# Altium footprint library single channel esc.PcbLib: 8 footprints
Each footprint in its own frame and in the unit in brackets; x right, y up, seen from the top. Pads: shape width x height; smd on the part's side, far side on the other; paste and mask are expansions set on the pad; w line width, h text height; cw(c..) or ccw(c..) is an arc to the next point about the centre after c.
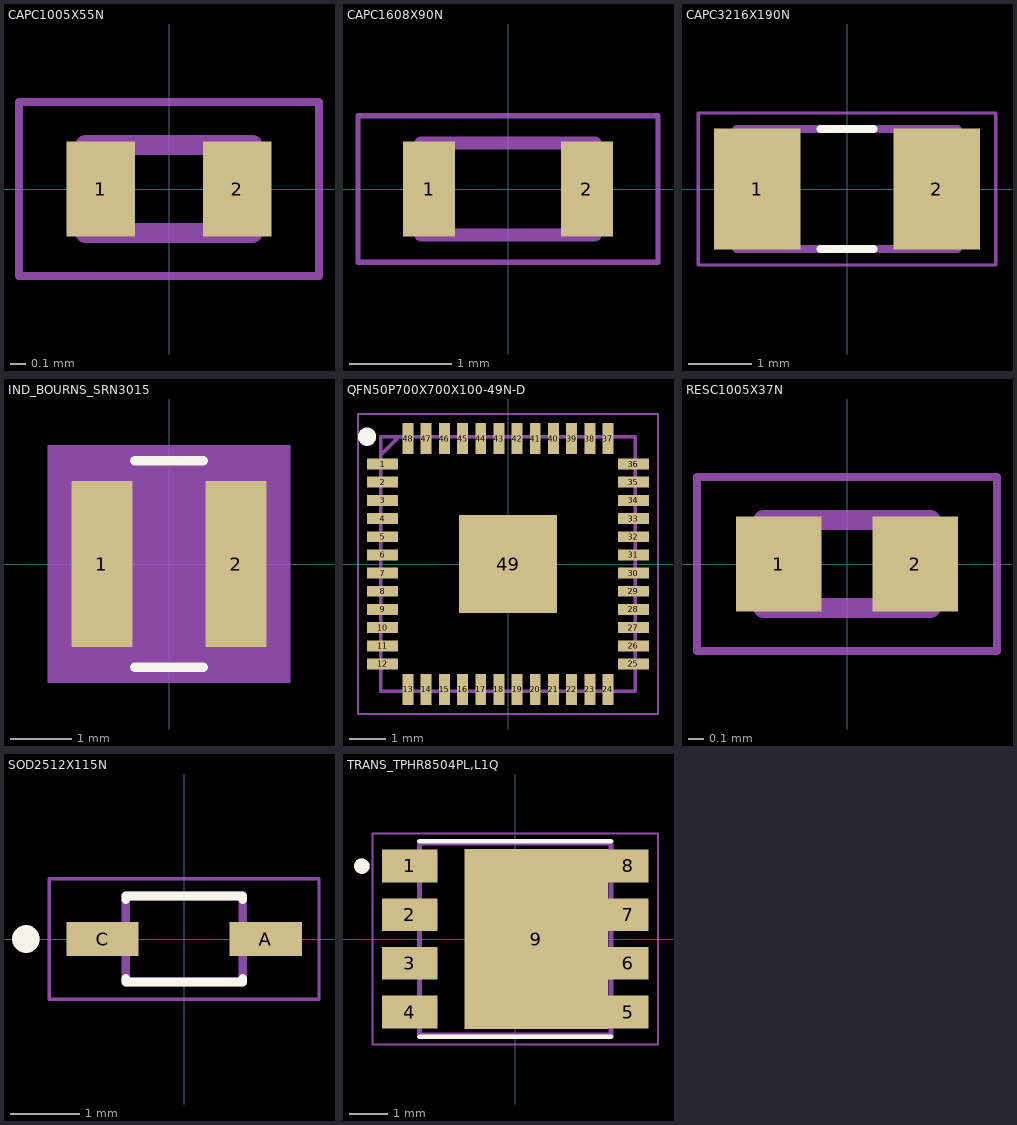
[diagram p0: the footprints below, top view; thin cyan lines are the x and y axes]

## CAPC1005X55N [mm]
pads (2):
  rect 0.432x0.6 smd: 1(-0.432,0) 2(0.432,0)
Mechanical 13:
  lines w0.127: -0.53,-0.28 -0.53,0.28 0.53,0.28 0.53,-0.28 -0.53,-0.28
Mechanical 15:
  lines w0.05: -0.95,-0.55 -0.95,0.55 0.95,0.55 0.95,-0.55 -0.95,-0.55
3D body "GRM1555C1H222JA01D.STEP": height 0.5, standoff 0, extent -0.5,-0.267 0.5,0.283

## CAPC1608X90N [mm]
pads (2):
  rect 0.508x0.93 smd: 1(-0.77,0) 2(0.77,0)
Mechanical 13:
  lines w0.127: -0.85,-0.45 0.85,-0.45 0.85,0.45 -0.85,0.45 -0.85,-0.45
Mechanical 15:
  lines w0.05: -1.465,-0.715 1.465,-0.715 1.465,0.715 -1.465,0.715 -1.465,-0.715
3D body "GRM188R71E224JA88D.STEP": height 0.81, standoff 0.01, extent -0.8,-0.445 0.8,0.456

## CAPC3216X190N [mm]
pads (2):
  rect 1.37x1.91 smd: 1(-1.421,0) 2(1.421,0)
Top Overlay:
  lines w0.127: -0.42,-0.95 0.42,-0.95 ; -0.42,0.95 0.42,0.95
Mechanical 13:
  lines w0.127: -1.75,-0.95 -1.75,0.95 1.75,0.95 1.75,-0.95 -1.75,-0.95
Mechanical 15:
  lines w0.05: -2.355,-1.205 -2.355,1.205 2.355,1.205 2.355,-1.205 -2.355,-1.205
3D body "GRM31CC80G227ME11K.STEP": height 1.56, standoff -0.04, extent -1.6,-0.95 1.6,0.95

## IND_BOURNS_SRN3015 [mil]
pads (2):
  rect 39x106 smd paste+0 mask+0: 1(-43,0) 2(43,0)
Top Overlay:
  lines w6: -21.88,-66 21.88,-66 ; -21.88,66 21.88,66
Mechanical 5:
  region: 77.5,-76 -77.5,-76 -77.5,76 77.5,76
Mechanical 13:
  lines w1: -61,-61 -61,61 61,61 61,-61 -61,-61
Mechanical 15:
  region: -71,-63 -72.5,-63 -72.5,63 -71,63 -71,71 71,71 71,63 72.5,63 72.5,-63 71,-63 71,-71 -71,-71
  lines w6: -72.5,-63 -71,-63 -71,-71 71,-71 71,-63 72.5,-63 72.5,63 71,63 71,71 -71,71 -71,63 -72.5,63 -72.5,-63
3D body "IND_BOURNS_SRN3015.step": height 59.02, standoff 0, extent -60.98,-61.1 60.98,61.1

## QFN50P700X700X100-49N-D [mm]
pads (49):
  rect 0.85x0.3 smd: 1(-3.45,2.75) 2(-3.45,2.25) 3(-3.45,1.75) 4(-3.45,1.25) 5(-3.45,0.75) 6(-3.45,0.25) 7(-3.45,-0.25) 8(-3.45,-0.75) 9(-3.45,-1.25) 10(-3.45,-1.75) 11(-3.45,-2.25) 12(-3.45,-2.75) 25(3.45,-2.75) 26(3.45,-2.25) 27(3.45,-1.75) 28(3.45,-1.25) 29(3.45,-0.75) 30(3.45,-0.25) 31(3.45,0.25) 32(3.45,0.75) 33(3.45,1.25) 34(3.45,1.75) 35(3.45,2.25) 36(3.45,2.75)
  rect 0.3x0.85 smd: 13(-2.75,-3.45) 14(-2.25,-3.45) 15(-1.75,-3.45) 16(-1.25,-3.45) 17(-0.75,-3.45) 18(-0.25,-3.45) 19(0.25,-3.45) 20(0.75,-3.45) 21(1.25,-3.45) 22(1.75,-3.45) 23(2.25,-3.45) 24(2.75,-3.45) 37(2.75,3.45) 38(2.25,3.45) 39(1.75,3.45) 40(1.25,3.45) 41(0.75,3.45) 42(0.25,3.45) 43(-0.25,3.45) 44(-0.75,3.45) 45(-1.25,3.45) 46(-1.75,3.45) 47(-2.25,3.45) 48(-2.75,3.45)
  rect 2.7x2.7 smd: 49(0,0)
Top Overlay:
  circle w0.25: c-3.875,3.5 r0.125
Mechanical 13:
  lines w0.1: -3.5,3 -3,3.5 ; -3.5,-3.5 -3.5,3.5 3.5,3.5 3.5,-3.5 -3.5,-3.5
Mechanical 15:
  lines w0.05: -4.125,-4.125 -4.125,4.125 4.125,4.125 4.125,-4.125 -4.125,-4.125
3D body "STSPIN32F0ATR.stp": height 1, standoff 0, extent -3.55,-3.55 3.55,3.55

## RESC1005X37N [mm]
pads (2):
  rect 0.54x0.6 smd: 1(-0.432,0) 2(0.432,0)
Mechanical 13:
  lines w0.127: -0.53,-0.28 -0.53,0.28 0.53,0.28 0.53,-0.28 -0.53,-0.28
Mechanical 15:
  lines w0.05: -0.95,-0.55 -0.95,0.55 0.95,0.55 0.95,-0.55 -0.95,-0.55
3D body "step_temp.STEP": height 0.37, standoff 0, extent -0.5,-0.25 0.5,0.25

## SOD2512X115N [mm]
pads (2):
  rect 1.05x0.5 smd: A(1.185,0) C(-1.185,0)
Top Overlay:
  circle w0.2: c-2.3,0 r0.1
  lines w0.127: -0.85,-0.57 -0.85,-0.625 0.85,-0.625 0.85,-0.57 ; -0.85,0.57 -0.85,0.625 0.85,0.625 0.85,0.57
Mechanical 13:
  circle w0.2: c-2.3,0 r0.1
  lines w0.127: -0.85,-0.625 0.85,-0.625 0.85,0.625 -0.85,0.625 -0.85,-0.625
Mechanical 15:
  lines w0.05: -1.96,-0.875 1.96,-0.875 1.96,0.875 -1.96,0.875 -1.96,-0.875

## TRANS_TPHR8504PL,L1Q [mm]
pads (9):
  rect 1.45x0.85 smd: 1(-2.75,1.905) 2(-2.75,0.635) 3(-2.75,-0.635) 4(-2.75,-1.905)
  rect 1.05x0.85 smd: 5(2.95,-1.905) 6(2.95,-0.635) 7(2.95,0.635) 8(2.95,1.905)
  rect 3.75x4.7 smd paste-3: 9(0.55,0)
Top Overlay:
  circle w0.2: c-4,1.9 r0.1
  lines w0.127: -2.5,-2.55 2.5,-2.55 ; -2.5,2.55 2.5,2.55
Top Paste:
  region: 2.04,-1.186 -0.94,-1.186 -0.94,1.186 2.04,1.186
Mechanical 13:
  circle w0.2: c-4,1.9 r0.1
  lines w0.127: -2.5,-2.5 -2.5,2.5 2.5,2.5 2.5,-2.5 -2.5,-2.5
Mechanical 15:
  lines w0.05: -3.725,-2.75 -3.725,2.75 3.725,2.75 3.725,-2.75 -3.725,-2.75
3D body "TPHR8504PL,L1Q.STEP": height 1, standoff 0, extent -3,-2.65 3,2.65